# EAGLE library part 615008160221 (library Wurth_Connectors_WR-MJ)
WR-MJ Modular Jack THT Horizontal Shielded EMI 8P8C MATERIAL PROPERTIES Insulator Material PA9T Insulator Flammability Rating UL94 V-0 Insulator Color Black Contact Material Copper Alloy Contact Plating 6u' on contact plating Contact Type Wired GENERAL INFORMATION Operating Temperature -40 up to +85 °C ELECTRICAL PROPERTIES Working Voltage 150 V (AC) Contact Resistance 20 mΩ RISO 1000 MΩ PACKAGING PROPERTIES Packaging Tray <https://katalog.we-online.com/media/images/v2/o161617v209%20Family_WR-MJTH_615008160221.jpg> Details see: https://katalog.we-online.com/en/em/MJ_THT_HORIZONTAL_SHIELDED_8P8C_EMI Updated by Yingchun Shan 2020-01-03 2020(C) Wurth Elektronik
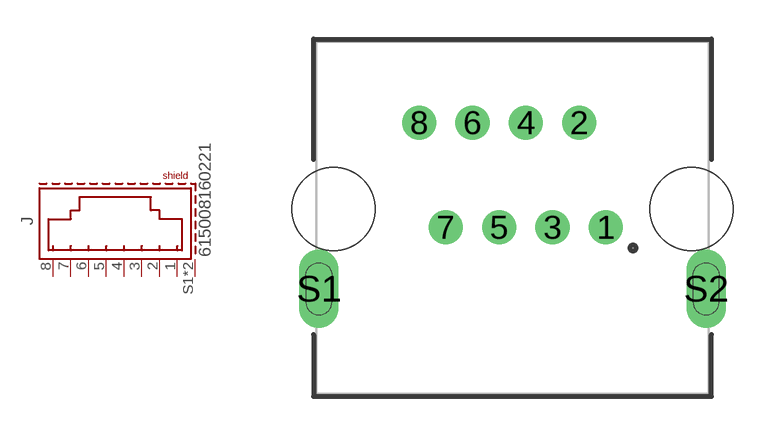
[diagram p28: symbol with the pads of 615008160221; footprint 615008160221]

Designator prefix J

## 615008160221 (DATASHEET-URL: https://www.we-online.com/redexpert/spec/615008160221?ae; MOUNT: THT; PART-NUMBER: 615008160221; TYPE: Horizontal; VALUE: 615008160221; XPXC: 8P8C)  [615008160221]
1  1  pas
2  2  pas
3  3  pas
4  4  pas
5  5  pas
6  6  pas
7  7  pas
8  8  pas
S1  SHIELD  pas
S2  SHIELD  pas

## Footprint 615008160221 (pad centres in mm)
WR-MJ Modular Jack THT Horizontal Shielded EMI 8P8C
drill 0.8: 1 3.57,-0.365; 2 2.55,3.635; 3 1.53,-0.365; 4 0.51,3.635; 5 -0.51,-0.365; 6 -1.53,3.635; 7 -2.55,-0.365; 8 -3.57,3.635
drill 1 pad 1.27 long: S1 -7.4,-2.715; S2 7.4,-2.715
hole 3.18 at -6.85,0.335
hole 3.18 at 6.85,0.335